# Altium schematic symbol library Schematic_Title_Blocks.SchLib: 1 symbol
Pins are listed as number, name and electrical type; pins without a type are passive.

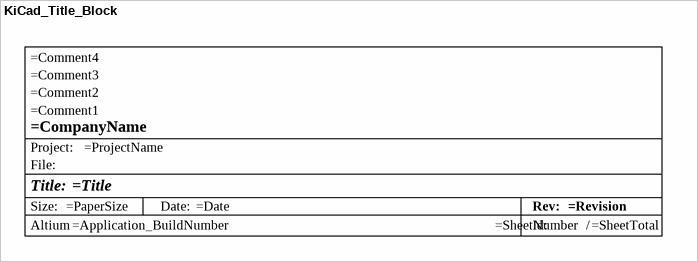
[diagram p0: symbol KiCad_Title_Block]

## KiCad_Title_Block
designator *  (value not drawn)  (graphical)
Based on the default KiCad v6 title block.; Comment 1: =Comment1; Comment 2: =Comment2; Comment 3: =Comment3; Comment 4: =Comment4; Paper Size: =PaperSize
text: Project:; File:; Title:; Size:; Date:; Rev:; Altium; Id:; /